# Altium footprint library CI_Driver.PcbLib: 1 footprints
Each footprint in its own frame and in the unit in brackets; x right, y up, seen from the top. Pads: shape width x height; smd on the part's side, far side on the other; paste and mask are expansions set on the pad; w line width, h text height; cw(c..) or ccw(c..) is an arc to the next point about the centre after c.
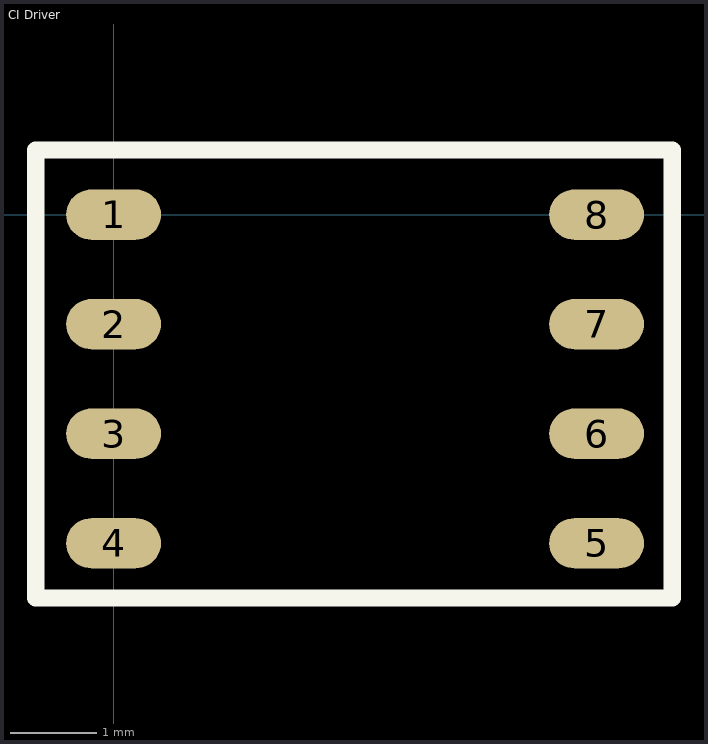
[diagram p0: the footprint, top view; thin cyan lines are the x and y axes]

## CI Driver [mm]
pads (8):
  oval 1.1x0.584 smd: 1(0,0) 2(0,-1.27) 3(0,-2.54) 4(0,-3.81) 5(5.6,-3.81) 6(5.6,-2.54) 7(5.6,-1.27) 8(5.6,0)
Top Overlay:
  lines w0.2: -0.901,-4.445 -0.901,-3.042 -0.901,-0.514 -0.901,0.75 6.477,0.75 6.477,-4.445 -0.889,-4.445
3D body "User Library-SOIC8_JEDEC_MS-012AA.step": height 1.75, standoff -0.01, extent -0.306,-4.405 5.894,0.595